# EAGLE library part 4049 (library #PaJa_31)
IO - invertujici oddelovac - 6 x
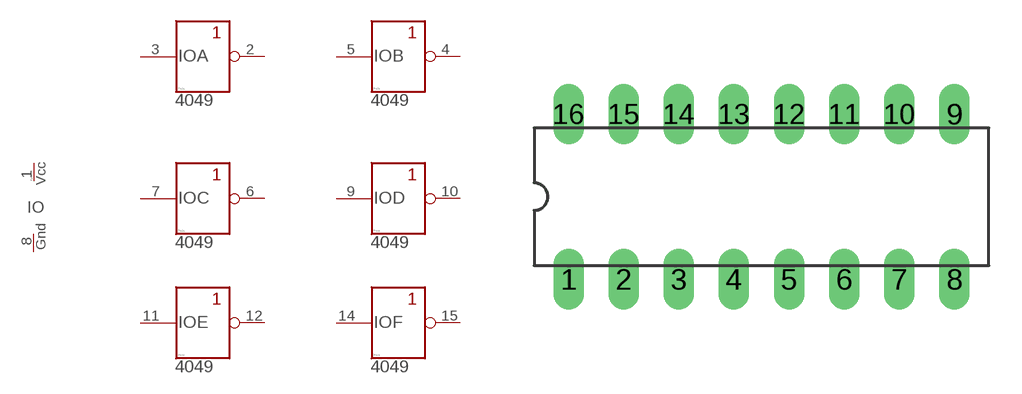
[diagram p8: symbol with the pads of DIL16; footprint DIL16]

Designator prefix IO; gates N=POWER A=INVERT B=INVERT C=INVERT D=INVERT E=INVERT F=INVERT

## 4049  [DIL16]
1  N:VCC  pwr
2  A:OUT  out
3  A:IN  in
4  B:OUT  out
5  B:IN  in
6  C:OUT  out
7  C:IN  in
8  N:GND  pwr
9  D:IN  in
10  D:OUT  out
11  E:IN  in
12  E:OUT  out
14  F:IN  in
15  F:OUT  out

## Footprint DIL16 (pad centres in mm)
drill 0.813 pad 1.4 long: 1 -8.89,-3.81; 2 -6.35,-3.81; 3 -3.81,-3.81; 4 -1.27,-3.81; 5 1.27,-3.81; 6 3.81,-3.81; 7 6.35,-3.81; 8 8.89,-3.81; 9 8.89,3.81; 10 6.35,3.81; 11 3.81,3.81; 12 1.27,3.81; 13 -1.27,3.81; 14 -3.81,3.81; 15 -6.35,3.81; 16 -8.89,3.81